# Altium footprint library 3D Components_v1.PcbLib: 30 footprints (part 1 of 2)
Each footprint in its own frame and in the unit in brackets; x right, y up, seen from the top. Pads: shape width x height; smd on the part's side, far side on the other; paste and mask are expansions set on the pad; w line width, h text height; cw(c..) or ccw(c..) is an arc to the next point about the centre after c.
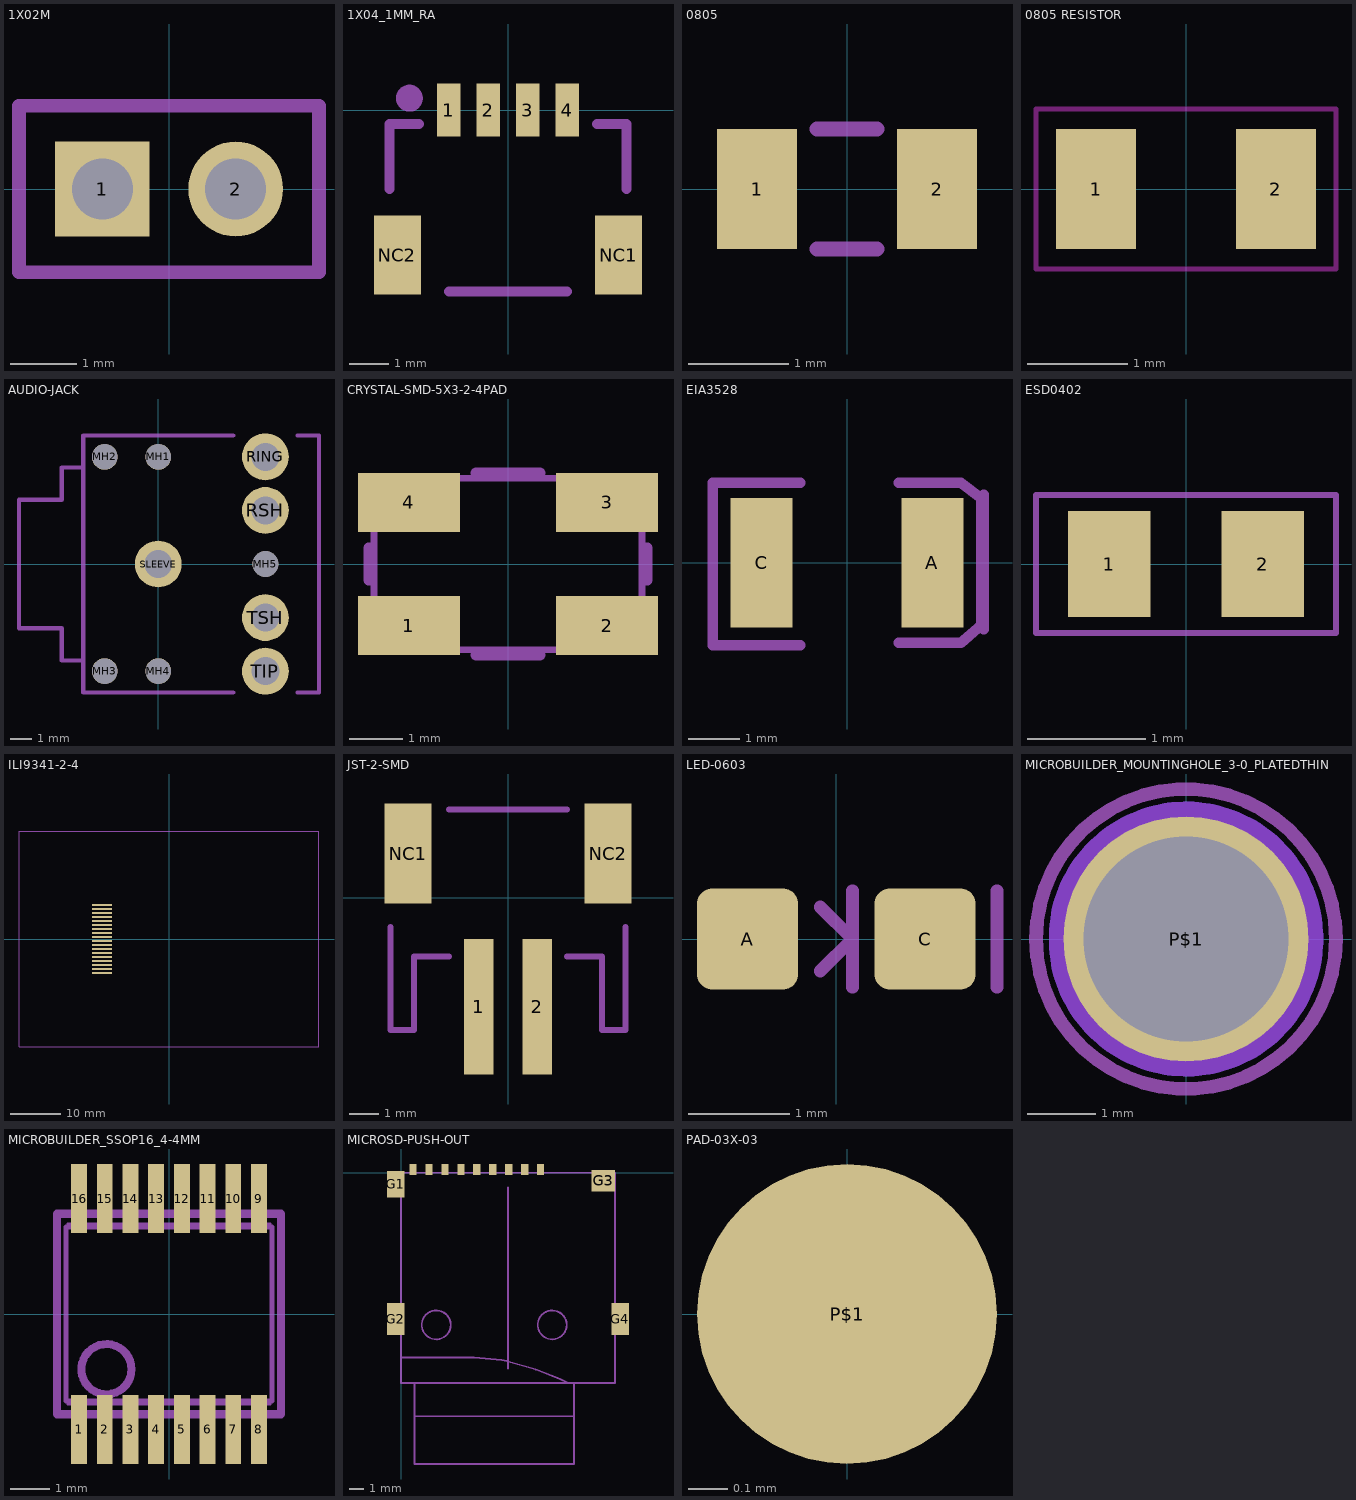
[diagram p0: the footprints below, top view; thin cyan lines are the x and y axes]

## 1X02M [mil]
pads (2):
  rect 56x56 / inner round 51.74 / far side rect 56x56 hole 36: 1(-39.37,0)
  round 56 hole 36: 2(39.37,0)
Mechanical 3:
  region: 29.53,-9.84 29.53,9.84 49.21,9.84 49.21,-9.84
  region: -49.21,-9.84 -49.21,9.84 -29.53,9.84 -29.53,-9.84
Mechanical 7:
  lines w8: -88.58,-49.21 88.58,-49.21 88.58,49.21 -88.58,49.21 -88.58,-49.21

## 1X04_1MM_RA [mm]
pads (6):
  rect 0.6x1.35 smd: 1(-1.5,0) 2(-0.5,0) 3(0.5,0) 4(1.5,0)
  rect 1.2x2 smd: NC1(2.8,-3.675) NC2(-2.8,-3.675)
Mechanical 7:
  circle w0.4: c-2.5,0.3 r0.141
  lines w0.254: -3,-2 -3,-0.35 -2.25,-0.35 ; -1.5,-4.6 1.5,-4.6 ; 2.25,-0.35 3,-0.35 3,-2

## 0805 [mil]
pads (2):
  rect 31.5x47.24 smd: 1(-35.43,0) 2(35.43,0)
Mechanical 7:
  lines w6: -11.81,-23.62 11.81,-23.62 ; -11.81,23.62 11.81,23.62

## 0805 RESISTOR [mil]
pads (2):
  rect 31.5x47.24 smd: 1(-35.43,0) 2(35.43,0)
Top Layer keep-out:
  lines w2: -59.06,-31.5 -59.06,31.5 59.06,31.5 59.06,-31.5 -59.06,-31.5

## AUDIO-JACK [mm]
pads (10):
  round 1.2 hole 1.2 unplated: MH1(0,5) MH2(-2.5,5) MH3(-2.5,-5) MH4(0,-5) MH5(5,0)
  round 2.184 hole 1.3: RING(5,5) RSH(5,2.5) SLEEVE(0,0) TIP(5,-5) TSH(5,-2.5)
Mechanical 3:
  lines w0.203: -3.5,-6 -3.5,-4.5 -4.5,-4.5 -4.5,-3 -6.5,-3 -6.5,3 -4.5,3 -4.5,4.5 -3.5,4.5 -3.5,6
Mechanical 7:
  lines w0.203: 3.5,-6 -3.5,-6 -3.5,6 3.5,6 ; 6.5,-6 7.5,-6 7.5,6 6.5,6

## CRYSTAL-SMD-5X3-2-4PAD [mm]
pads (4):
  rect 1.9x1.1 smd: 1(-1.85,-1.15) 2(1.85,-1.15) 3(1.85,1.15) 4(-1.85,1.15)
Mechanical 3:
  region: -1.3,-1.6 -1.3,-0.8 -2.5,-0.8 -2.5,-1.6
  region: 1.3,1.6 1.3,0.8 2.5,0.8 2.5,1.6
  region: 2.5,-1.6 2.5,-0.8 1.3,-0.8 1.3,-1.6
  region: -2.5,1.6 -2.5,0.8 -1.3,0.8 -1.3,1.6
  lines w0.127: -2.5,-1.6 2.5,-1.6 2.5,1.6 -2.5,1.6 -2.5,-1.6
Mechanical 7:
  lines w0.203: -2.6,-0.3 -2.6,0.3 ; -0.6,-1.7 0.6,-1.7 ; -0.6,1.7 0.6,1.7 ; 2.6,-0.3 2.6,0.3

## EIA3528 [mm]
pads (2):
  rect 1.2x2.5 smd: A(1.65,0) C(-1.65,0)
Mechanical 3:
  lines w0.203: -0.9,-1.6 -2.6,-1.6 -2.6,1.55 -0.9,1.55 ; 1,-1.55 2.2,-1.55 2.6,-1.2 2.6,1.25 2.2,1.55 1,1.55
Mechanical 7:
  lines w0.203: 2.641,-1.286 2.641,1.311

## ESD0402 [mm]
pads (2):
  rect 0.7x0.9 smd: 1(-0.65,0) 2(0.65,0)
Mechanical 7:
  lines w0.051: -1.27,-0.583 1.27,-0.583 1.27,0.583 -1.27,0.583 -1.27,-0.583

## ILI9341-2-4 [mm]
pads (18):
  rect 4x0.4 smd: P$1(-13.4,6.8) P$2(-13.4,6) P$3(-13.4,5.2) P$4(-13.4,4.4) P$5(-13.4,3.6) P$6(-13.4,2.8) P$7(-13.4,2) P$8(-13.4,1.2) P$9(-13.4,0.4) P$10(-13.4,-0.4) P$11(-13.4,-1.2) P$12(-13.4,-2) P$13(-13.4,-2.8) P$14(-13.4,-3.6) P$15(-13.4,-4.4) P$16(-13.4,-5.2) P$17(-13.4,-6) P$18(-13.4,-6.8)
Mechanical 7:
  lines w0.203: -30,-21.5 -30,21.5 30,21.5 30,-21.5 -30,-21.5
  text "18" at -15.46,-8.73 h1.08
  text "1" at -15.46,8.13 h1.08

## JST-2-SMD [mm]
pads (4):
  rect 1x4.6 smd: 1(-1,-3.7) 2(1,-3.7)
  rect 1.6x3.4 smd: NC1(-3.4,1.5) NC2(3.4,1.5)
Mechanical 7:
  lines w0.203: -4,-1 -4,-4.5 -3.2,-4.5 -3.2,-2 -2,-2 ; -2,3 2,3 ; 2,-2 3.2,-2 3.2,-4.5 4,-4.5 4,-1

## LED-0603 [mm]
pads (2):
  rrect30% 1x1 smd: A(-0.877,0) C(0.877,0)
Mechanical 3:
  lines w0.127: -0.159,-0.318 0.159,0 ; -0.159,0.318 0.159,0 ; 0.159,-0.476 0.159,0 ; 0.159,0.476 0.159,0
Mechanical 7:
  lines w0.127: 1.587,-0.476 1.587,0.476

## MICROBUILDER_MOUNTINGHOLE_3-0_PLATEDTHIN [mm]
pads (1):
  round 3.6 hole 3: P$1(0,0)
Top Layer keep-out:
  circle w2.032: c0,0 r1
  circle w2.032: c0,0 r1
  circle w2.032: c0,0 r1
Bottom Layer keep-out:
  circle w2.032: c0,0 r1
  circle w2.032: c0,0 r1
Mechanical 7:
  circle w0.2: c0,0 r2.2

## MICROBUILDER_SSOP16_4-4MM [mm]
pads (16):
  rect 0.4x1.75 smd: 1(-2.275,-2.92) 2(-1.625,-2.92) 3(-0.975,-2.92) 4(-0.325,-2.92) 5(0.325,-2.92) 6(0.975,-2.92) 7(1.625,-2.92) 8(2.275,-2.92) 9(2.275,2.92) 10(1.625,2.92) 11(0.975,2.92) 12(0.325,2.92) 13(-0.325,2.92) 14(-0.975,2.92) 15(-1.625,2.92) 16(-2.275,2.92)
Mechanical 3:
  region: -2.425,-3.3 -2.425,-2.1 -2.125,-2.1 -2.125,-3.3
  region: -1.775,-3.3 -1.775,-2.1 -1.475,-2.1 -1.475,-3.3
  region: -1.125,-3.3 -1.125,-2.1 -0.825,-2.1 -0.825,-3.3
  region: -0.475,-3.3 -0.475,-2.1 -0.175,-2.1 -0.175,-3.3
  region: 0.175,-3.3 0.175,-2.1 0.475,-2.1 0.475,-3.3
  region: 0.825,-3.3 0.825,-2.1 1.125,-2.1 1.125,-3.3
  region: 1.475,-3.3 1.475,-2.1 1.775,-2.1 1.775,-3.3
  region: 2.125,-3.3 2.125,-2.1 2.425,-2.1 2.425,-3.3
  region: 2.125,2.1 2.125,3.3 2.425,3.3 2.425,2.1
  region: 1.475,2.1 1.475,3.3 1.775,3.3 1.775,2.1
  region: 0.825,2.1 0.825,3.3 1.125,3.3 1.125,2.1
  region: 0.175,2.1 0.175,3.3 0.475,3.3 0.475,2.1
  region: -0.475,2.1 -0.475,3.3 -0.175,3.3 -0.175,2.1
  region: -1.125,2.1 -1.125,3.3 -0.825,3.3 -0.825,2.1
  region: -1.775,2.1 -1.775,3.3 -1.475,3.3 -1.475,2.1
  region: -2.425,2.1 -2.425,3.3 -2.125,3.3 -2.125,2.1
Mechanical 7:
  circle w0.203: c-1.583,-1.397 r0.635
  lines w0.051: -2.574,-2.286 2.574,-2.286 2.574,2.286 -2.574,2.286 -2.574,-2.286
  lines w0.203: -2.828,-2.536 2.828,-2.536 2.828,2.536 -2.828,2.536 -2.828,-2.536
Mechanical 21:
  lines w0.127: -2.6,-2.2 2.6,-2.2 2.6,2.2 -2.6,2.2 -2.6,-2.2

## MICROSD-PUSH-OUT [mm]
pads (13):
  rect 0.5x0.75 smd: 1(9.625,0.225) 2(8.525,0.225) 3(7.425,0.225) 4(6.325,0.225) 5(5.225,0.225) 6(4.125,0.225) 7(3.025,0.225) 8(1.925,0.225) CD(0.825,0.225)
  rect 1.2x1.8 smd: G1(-0.375,-0.8)
  rect 1.2x2.2 smd: G2(-0.375,-10.1) G4(15.125,-10.1)
  rect 1.6x1.5 smd: G3(13.95,-0.55)
Mechanical 7:
  lines w0.127: 0,-14.5 0,0 14.75,0 14.75,-14.5 0,-14.5
Mechanical 19:
  circle w0.127: c2.425,-10.5 r1
  circle w0.127: c10.425,-10.5 r1
  lines w0.127: 0,-12.75 5.044,-12.75 6.939,-12.931 7.315,-13.004 9.269,-13.569 10.962,-14.231 11.5,-14.5 ; 0.925,-16.8 11.925,-16.8 ; 0.925,-14.5 0.925,-20.1 11.925,-20.1 11.925,-14.5 ; 7.375,-13.5 7.375,-1

## PAD-03X-03 [mil]
pads (1):
  rrect100% 30x30 smd paste+0: P$1(0,0)

## PCBComponent_1 [mm]